# Altium integrated library Sensors_lib.IntLib: 6 symbols
Pins are listed as number, name and electrical type; pins without a type are passive.

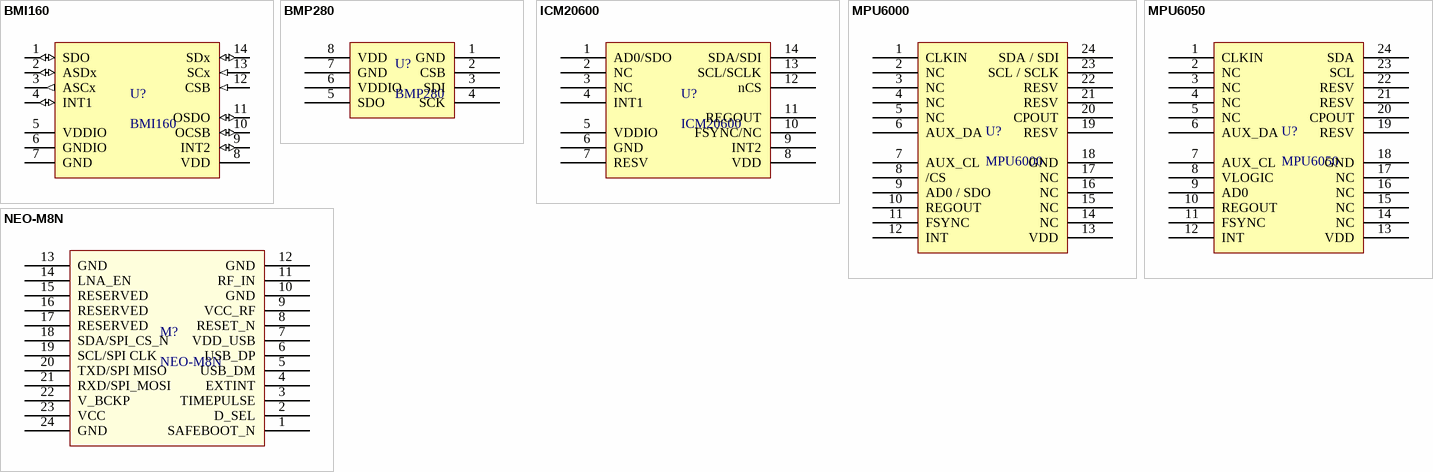
[diagram p0: symbols BMI160 to NEO-M8N]

## BMI160
designator U?
footprint BMI160-LGA14 (LCC, 14-Pins, Body 2.50x3.00mmx0.83mm, Pitch 0.50mm, IPC Medium Density)
pins: 1 SDO (io) "Serial data output in SPI,Address select in I2C mode", 2 ASDx (io) "Magnetometer interface(If INT1 and/or INT2 are not used, please do not connect them (DNC))", 3 ASCx (out) "Magnetometer interface", 4 INT1 (io) "Interrupt pin 1 (If INT1 and/or INT2 are not used, please do not connect them (DNC))", 5 VDDIO (power) "Digital I/O supply voltage  (1.2 … 3.6V)", 6 GNDIO (power) "Ground for I/O", 7 GND (power) "Ground for digital & analog", 8 VDD (power) "Power supply analog & digital domain (1.71V – 3.6V)", 9 INT2 (io) "Interrupt pin 2 (If INT1 and/or INT2 are not used, please do not connect them (DNC))", 10 OCSB (io) "OIS interface", 11 OSDO (io) "OIS interface", 12 CSB (in) "Chip select for SPI mode / Protocol selection pin", 13 SCx (in) "SCK for SPI serial clock, SCL for I²C serial clock", 14 SDx (io) "SDA serial data I/O in I2C, MOSI serial data input in SPI 4W, SISO serial data I/O in SPI 3W"

## BMP280
designator U?
footprint BMP280-LGA8 (SON, 8-Leads, Body 2.50x2.00mm, Pitch 0.65mm, IPC Medium Density)
pins: 1 GND "Ground", 2 CSB "Chip select", 3 SDI "Serial data input", 4 SCK "Serial clock input", 5 SDO "Serial data output", 6 VDDIO "Digital interface  supply", 7 GND "Ground", 8 VDD "Analog supply"

## ICM20600
designator U?
footprint ICM20600-LGA14 (LCC, 14-Pins, Body 2.50x3.00mmx0.97mm, Pitch 0.50mm, IPC Medium Density)
pins: 1 AD0/SDO "I2C slave address LSB (AD0); SPI serial data output (SDO)", 2 NC "No Connect", 3 NC "No Connect", 4 INT1 "Interrupt digital output (totem pole or open-drain)", 5 VDDIO "Digital I/O supply voltage", 6 GND "Power supply ground", 7 RESV "Reserved, connect to ground", 8 VDD "Power supply voltage", 9 INT2 "Interrupt digital output (totem pole or open-drain)", 10 FSYNC/NC "Frame synchronization digital input or No Connect", 11 REGOUT "Regulator filter capacitor connection", 12 nCS "Chip select (SPI mode only)", 13 SCL/SCLK "I2C serial clock (SCL); SPI serial clock (SCLK)", 14 SDA/SDI "I2C serial data (SDA); SPI serial data input (SDI)"

## MPU6000
designator U?
footprint MPU60X0-QFN24 (QFN, 24-Leads, Body 4.00x4.00mm, Pitch 0.50mm, Thermal Pad 2.60x2.60mm, IPC Medium Density)
pins: 1 CLKIN "Optional external reference clock input. Connect to GND if unused.", 2 NC "Not internally connected. May be used for PCB trace routing.", 3 NC "Not internally connected. May be used for PCB trace routing.", 4 NC "Not internally connected. May be used for PCB trace routing.", 5 NC "Not internally connected. May be used for PCB trace routing.", 6 AUX_DA "I2C master serial data, for connecting to external sensors", 7 AUX_CL "I2C Master serial clock, for connecting to external sensors", 8 /CS "SPI chip select (0=SPI mode)", 9 AD0 / SDO "I2C Slave Address LSB (AD0); SPI serial data output (SDO)", 10 REGOUT "Regulator filter capacitor connection", 11 FSYNC "Frame synchronization digital input. Connect to GND if unused.", 12 INT "Interrupt digital output (totem pole or open-drain)", 13 VDD "Power supply voltage and Digital I/O supply voltage", 14 NC "Not internally connected. May be used for PCB trace routing.", 15 NC "Not internally connected. May be used for PCB trace routing.", 16 NC "Not internally connected. May be used for PCB trace routing.", 17 NC "Not internally connected. May be used for PCB trace routing.", 18 GND "Power supply ground", 19 RESV "Reserved. Do not connect.", 20 CPOUT "Charge pump capacitor connection", 21 RESV "Reserved. Do not connect.", 22 RESV "Reserved. Do not connect.", 23 SCL / SCLK "I2C serial clock (SCL); SPI serial clock (SCLK)", 24 SDA / SDI "I2C serial data (SDA); SPI serial data input (SDI)"

## MPU6050
designator U?
footprint MPU60X0-QFN24 (QFN, 24-Leads, Body 4.00x4.00mm, Pitch 0.50mm, Thermal Pad 2.60x2.60mm, IPC Medium Density)
pins: 1 CLKIN "Optional external reference clock input. Connect to GND if unused.", 2 NC "Not internally connected. May be used for PCB trace routing.", 3 NC "Not internally connected. May be used for PCB trace routing.", 4 NC "Not internally connected. May be used for PCB trace routing.", 5 NC "Not internally connected. May be used for PCB trace routing.", 6 AUX_DA "I2C master serial data, for connecting to external sensors", 7 AUX_CL "I2C Master serial clock, for connecting to external sensors", 8 VLOGIC "Digital I/O supply voltage", 9 AD0 "I2C Slave Address LSB (AD0)", 10 REGOUT "Regulator filter capacitor connection", 11 FSYNC "Frame synchronization digital input. Connect to GND if unused.", 12 INT "Interrupt digital output (totem pole or open-drain)", 13 VDD "Power supply voltage and Digital I/O supply voltage", 14 NC "Not internally connected. May be used for PCB trace routing.", 15 NC "Not internally connected. May be used for PCB trace routing.", 16 NC "Not internally connected. May be used for PCB trace routing.", 17 NC "Not internally connected. May be used for PCB trace routing.", 18 GND "Power supply ground", 19 RESV "Reserved. Do not connect.", 20 CPOUT "Charge pump capacitor connection", 21 RESV "Reserved. Do not connect.", 22 RESV "Reserved. Do not connect.", 23 SCL "I2C serial clock (SCL)", 24 SDA "I2C serial data (SDA)"

## NEO-M8N
designator M?
footprint NEO-M8N (u-blox NEO GNSS module)
pins: 1 SAFEBOOT_N, 2 D_SEL, 3 TIMEPULSE, 4 EXTINT, 5 USB_DM, 6 USB_DP, 7 VDD_USB, 8 RESET_N, 9 VCC_RF, 10 GND, 11 RF_IN, 12 GND, 13 GND, 14 LNA_EN, 15 RESERVED, 16 RESERVED, 17 RESERVED, 18 SDA/SPI_CS_N, 19 SCL/SPI CLK, 20 TXD/SPI MISO, 21 RXD/SPI_MOSI, 22 V_BCKP, 23 VCC, 24 GND